# EAGLE library part TJA1050 (library ds_ic_peripherals)
High speed CAN transceiver // Fully compatible with the “ISO 11898” standard High speed (up to 1 Mbaud)
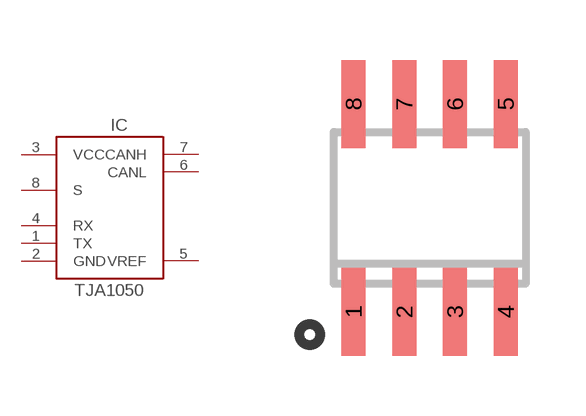
[diagram p18: symbol with the pads of SO8; footprint SO8]

Designator prefix IC

## TJA1050  [SO8]
1  TX
2  GND
3  VCC
4  RX
5  VREF
6  CANL
7  CANH
8  S

## Footprint SO8 (pad centres in mm)
SMALL OUTLINE INTEGRATED CIRCUIT
smd 0.6 x 2.2: 1 -1.905,-2.6; 2 -0.635,-2.6; 3 0.635,-2.6; 4 1.905,-2.6; 5 1.905,2.6; 6 0.635,2.6; 7 -0.635,2.6; 8 -1.905,2.6